# Altium schematic symbol library bibla2.SchLib: 2 symbols
Pins are listed as number, name and electrical type; pins without a type are passive.

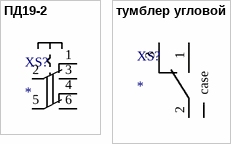
[diagram p0: symbols ПД19-2 to тумблер угловой]

## ПД19-2
designator XS?
footprint ПД19-2
pins: 1, 2, 3, 4, 5, 6

## тумблер угловой
designator XS?
SMTS-102-2C4
footprint тумблер угловой (SMTS-102-2C4)
pins: 0 case, 1, 2, 3